# EAGLE library part ESP32_MINI_KIT (library robot-hand)
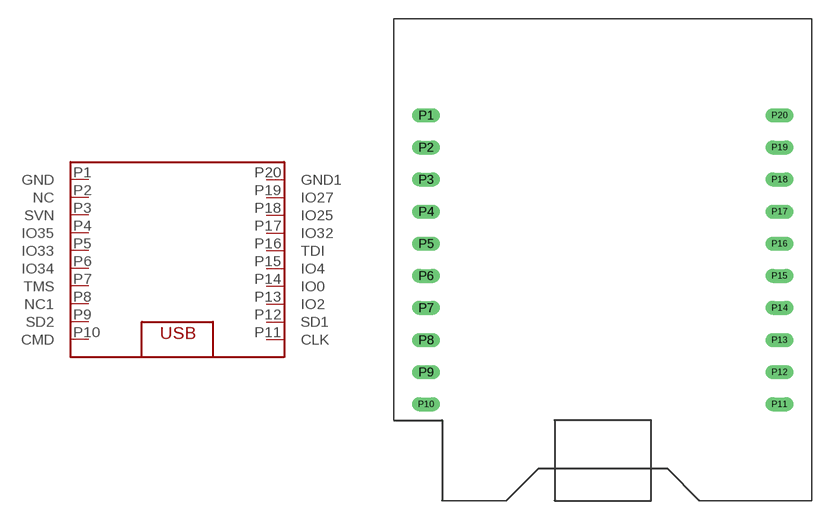
[diagram p13: symbol with the pads of ESP32_MINI_KIT; footprint ESP32_MINI_KIT]

Designator prefix -

## ESP32_MINI_KIT  [ESP32_MINI_KIT]
P1  GND
P2  NC
P3  SVN
P4  IO35
P5  IO33
P6  IO34
P7  TMS
P8  NC1
P9  SD2
P10  CMD
P11  CLK
P12  SD1
P13  IO2
P14  IO0
P15  IO4
P16  TDI
P17  IO32
P18  IO25
P19  IO27
P20  GND1

## Footprint ESP32_MINI_KIT (pad centres in mm)
drill 0.6 long: P1 -13.97,11.43; P2 -13.97,8.89; P3 -13.97,6.35; P4 -13.97,3.81; P5 -13.97,1.27; P6 -13.97,-1.27; P7 -13.97,-3.81; P8 -13.97,-6.35; P9 -13.97,-8.89; P10 -13.97,-11.43; P11 13.97,-11.43; P12 13.97,-8.89; P13 13.97,-6.35; P14 13.97,-3.81; P15 13.97,-1.27; P16 13.97,1.27; P17 13.97,3.81; P18 13.97,6.35; P19 13.97,8.89; P20 13.97,11.43